# Altium schematic symbol library VCNL4020.SchLib: 1 symbol
Pins are listed as number, name and electrical type; pins without a type are passive.

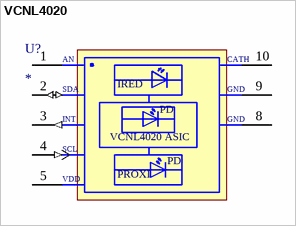
[diagram p0: symbol VCNL4020]

## VCNL4020
designator U?
Value: *
pins: 1 IR-ANODE, 2 SDA (io), 3 INT (out), 4 SCL (in), 5 VDD (power), 8 GND2 (power), 9 GND (power), 10 IR-CATHODE
text: AN; CATH; IRED; PD; VCNL4020 ASIC; PROXI